# Altium schematic symbol library iv_quartz.SchLib: 3 symbols
Pins are listed as number, name and electrical type; pins without a type are passive.

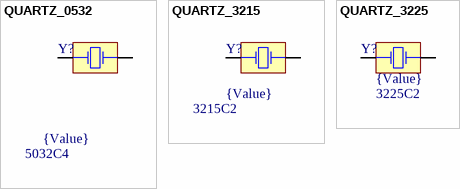
[diagram p0: symbols QUARTZ_0532 to QUARTZ_3225]

## QUARTZ_0532
designator Y?, comment Case: 5032C4  (hidden comment: {Value})
Crystal Oscillator; Value: {Value}
footprint SMD05032C4 (Surface Mount Quartz Generator; Body 5.0 x 3.2 mm)
pins: 1 OSC2, 3 OSC1

## QUARTZ_3215
designator Y?, comment Case: 3215C2  (hidden comment: {Value})
Crystal Oscillator; Value: {Value}
footprint SMD03215C2 (Surface Mount Quartz Generator; Body 3.2 x 1.5 mm)
pins: 0 OSC1, 1 OSC2

## QUARTZ_3225
designator Y?, comment Case: 3225C2  (hidden comment: {Value})
Crystal Oscillator; Value: {Value}
footprint SMD03225C4 (Surface Mount Quartz Generator; Body 3.2 x 2.5 mm)
pins: 1 OSC2, 3 OSC1